# Altium integrated library single channel esc.IntLib: 12 symbols
Pins are listed as number, name and electrical type; pins without a type are passive.

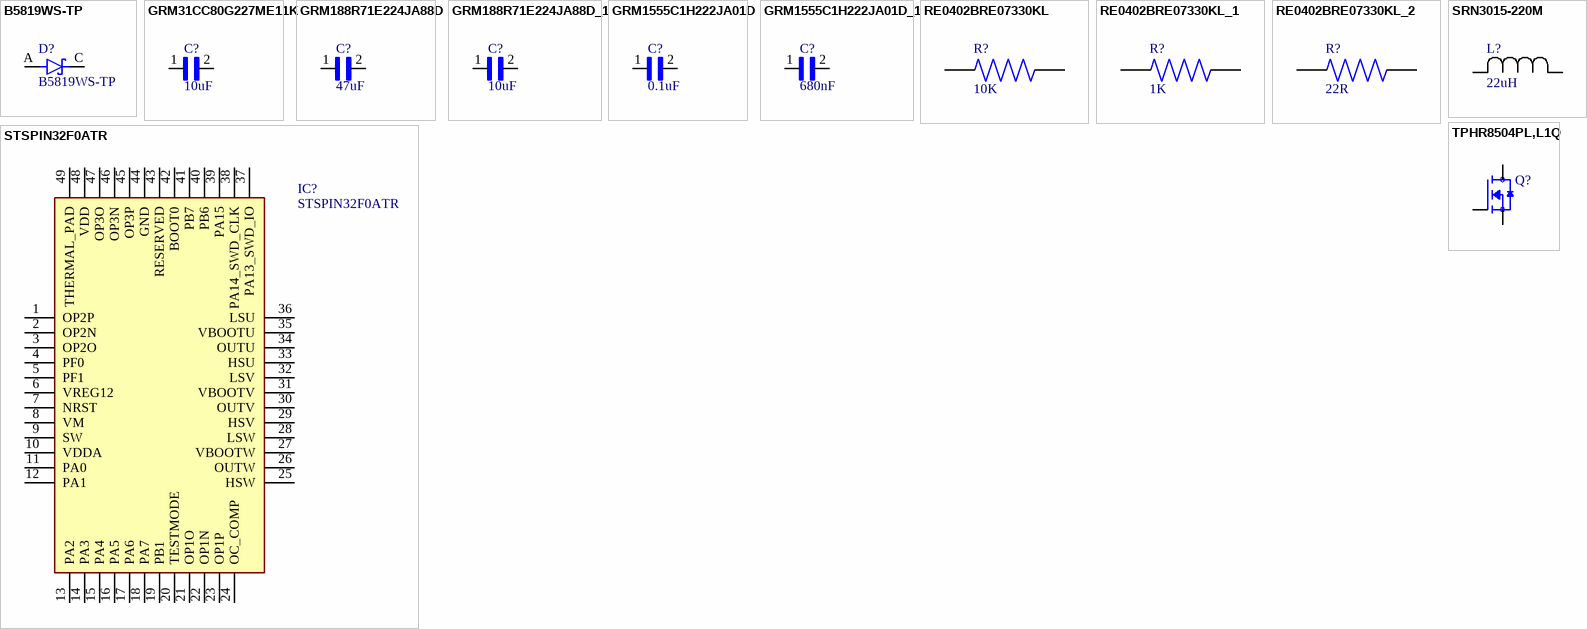
[diagram p0: symbols B5819WS-TP to TPHR8504PL,L1Q]

## B5819WS-TP
designator D?
MF: {'manufacturer': u'Micro Commercial Components'}; Package: None; MP: B5819WS-TP; Price: None; Availability: Unavailable; Value: *
footprint SOD2512X115N
pins: A, C K

## GRM31CC80G227ME11K
designator C?, comment 10uF
Ceramic Capacitor; MP: GRM31CC80G227ME11K; Package: None; Price: None; Value: *; Availability: Unavailable
footprint CAPC3216X190N
pins: 1, 2

## GRM188R71E224JA88D
designator C?, comment 47uF
SMD Capacitor X7R(EIA) with Capacitance: 0.22uF Tol. 5%. Rated Voltage: 25Vdc; MP: GRM188R71E224JA88D; Package: None; Price: None; Value: *; Availability: Unavailable
footprint CAPC1608X90N
pins: 1, 2

## GRM188R71E224JA88D_1
designator C?, comment 10uF
SMD Capacitor X7R(EIA) with Capacitance: 0.22uF Tol. 5%. Rated Voltage: 25Vdc; MP: GRM188R71E224JA88D; Package: None; Price: None; Value: *; Availability: Unavailable
footprint CAPC1608X90N
pins: 1, 2

## GRM1555C1H222JA01D
designator C?, comment 0.1uF
MP: GRM1555C1H222JA01D; Package: None; Price: None; Value: *; Availability: Unavailable
footprint CAPC1005X55N
pins: 1, 2

## GRM1555C1H222JA01D_1
designator C?, comment 680nF
MP: GRM1555C1H222JA01D; Package: None; Price: None; Value: *; Availability: Unavailable
footprint CAPC1005X55N
pins: 1, 2

## RE0402BRE07330KL
designator R?, comment 10K
MP: RE0402BRE07330KL; MF: {'manufacturer': u'Yageo'}; Availability: Unavailable; Package: None; Value: *; Price: None
footprint RESC1005X37N
pins: 1, 2

## RE0402BRE07330KL_1
designator R?, comment 1K
MP: RE0402BRE07330KL; MF: {'manufacturer': u'Yageo'}; Availability: Unavailable; Package: None; Value: *; Price: None
footprint RESC1005X37N
pins: 1, 2

## RE0402BRE07330KL_2
designator R?, comment 22R
MP: RE0402BRE07330KL; MF: {'manufacturer': u'Yageo'}; Availability: Unavailable; Package: None; Value: *; Price: None
footprint RESC1005X37N
pins: 1, 2

## SRN3015-220M
designator L?, comment 22uH
No Description Available; Mfr_Name: Bourns Electronics; Manufacturer_Part_Number: SRN3015-220M; Type: DEV; Copyright: Copyright (C) 2022 Ultra Librarian. All rights reserved.; Digi-Key_Part_Number_1: SRN3015-220MCT-ND; Digi-Key_Part_Number_2: SRN3015-220MDKR-ND; Digi-Key_Part_Number_3: SRN3015-220MTR-ND; RefDes: RefDes
footprint IND_BOURNS_SRN3015
pins: 1, 2

## STSPIN32F0ATR
designator IC?
Integrated Circuit; Manufacturer_Name: STMicroelectronics; Datasheet Link: http://www.st.com/content/ccc/resource/technical/document/datasheet/group3/3d/88/0f/d1/3f/0c/49/80/DM00406030/files/DM00406030.pdf/jcr:content/translations/en.DM00406030.pdf; Height: 1mm; Manufacturer_Part_Number: STSPIN32F0ATR; Mouser Part Number: 511-STSPIN32F0ATR; Mouser Price/Stock: https://www.mouser.co.uk/ProductDetail/STMicroelectronics/STSPIN32F0ATR?qs=1mbolxNpo8flc7yUpKWOVQ%3D%3D; Arrow Part Number: STSPIN32F0ATR; Arrow Price/Stock: https://www.arrow.com/en/products/stspin32f0atr/stmicroelectronics
footprint QFN50P700X700X100-49N-D
pins: 1 OP2P, 2 OP2N, 3 OP2O, 4 PF0, 5 PF1, 6 VREG12, 7 NRST, 8 VM, 9 SW, 10 VDDA, 11 PA0, 12 PA1, 13 PA2, 14 PA3, 15 PA4, 16 PA5, 17 PA6, 18 PA7, 19 PB1, 20 TESTMODE, 21 OP1O, 22 OP1N, 23 OP1P, 24 OC_COMP, 25 HSW, 26 OUTW, 27 VBOOTW, 28 LSW, 29 HSV, 30 OUTV, 31 VBOOTV, 32 LSV, 33 HSU, 34 OUTU, 35 VBOOTU, 36 LSU, 37 PA13_SWD_IO, 38 PA14_SWD_CLK, 39 PA15, 40 PB6, 41 PB7, 42 BOOT0, 43 RESERVED, 44 GND, 45 OP3P, 46 OP3N, 47 OP3O, 48 VDD, 49 THERMAL_PAD

## TPHR8504PL,L1Q
designator Q?  (value not drawn)
N-Channel 40V 150A (Tc) 1W (Ta), 170W (Tc) Surface Mount 8-SOP Advance (5x5); MF: Toshiba Semiconductor; Package: SOP-8 Toshiba; Price: None; Value: *; MP: TPHR8504PL,L1Q; SnapEDA_Link: https://www.snapeda.com/parts/TPHR8504PL,L1Q/Toshiba%20Semiconductor%20and%20Storage/view-part/604439/?ref=snap; Availability: Unavailable
footprint TRANS_TPHR8504PL,L1Q
pins: 1 S, 2 S, 3 S, 4 G, 5 D, 6 D, 7 D, 8 D, 9 D